# EAGLE library part ADM3202ARNZ (library debauer_ics)
RS-232 Line Drivers/Receivers
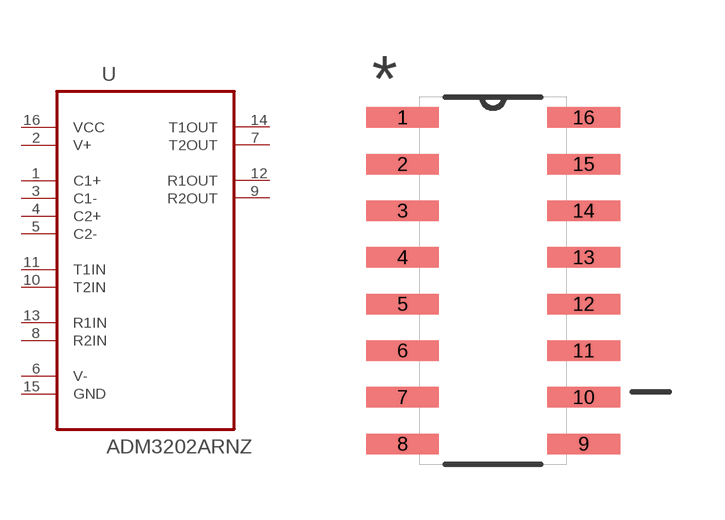
[diagram p4: symbol with the pads of SOIC127P600X175-16N; footprint SOIC127P600X175-16N]

Designator prefix U

## ADM3202ARNZ (MOUNT: smd; MPN: ADM3202ARNZ; OC_CONRAD: ADM 3202 ARN; OC_FARNELL: 1333250; OC_NEWARK: 59K2061; PACKAGE: SOIC-16; SUPPLIER: Analog Devices)  [SOIC127P600X175-16N]
1  C1+  pas
2  V+  pwr
3  C1-  pas
4  C2+  pas
5  C2-  pas
6  V-  pwr
7  T2OUT  out
8  R2IN  in
9  R2OUT  out
10  T2IN  in
11  T1IN  in
12  R1OUT  out
13  R1IN  in
14  T1OUT  out
15  GND  pas
16  VCC  pwr

## Footprint SOIC127P600X175-16N (pad centres in mm)
smd 1.981 x 0.559: 1 -2.464,4.445; 2 -2.464,3.175; 3 -2.464,1.905; 4 -2.464,0.635; 5 -2.464,-0.635; 6 -2.464,-1.905; 7 -2.464,-3.175; 8 -2.464,-4.445; 9 2.464,-4.445; 10 2.464,-3.175; 11 2.464,-1.905; 12 2.464,-0.635; 13 2.464,0.635; 14 2.464,1.905; 15 2.464,3.175; 16 2.464,4.445